# Altium schematic symbol library THS4552.SchLib: 1 symbol
Pins are listed as number, name and electrical type; pins without a type are passive.

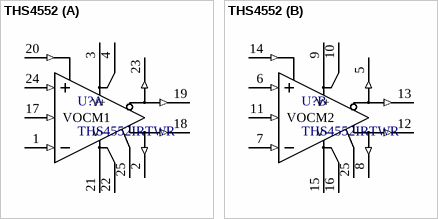
[diagram p0: symbol THS4552]

## THS4552
designator U?, comment THS4552IRTWR
Dual Channel, Low-Noise, Precision, 150-MHz, Fully Differential Amplifier; Manufacturer: Texas Instruments; PartNumber: THS4552IRTWR; RefDes: RefDes; Type: DEV; Value: Value; Copyright: Copyright (C) 2018 Accelerated Designs. All rights reserved; ComponentLink1Description: Product Page; ComponentLink1URL: https://www.ti.com/product/THS4552
footprint RTW0024A
part A pins: 1 -IN1 (in), 2 +FB1 (out), 3 +VS1 (power), 4 +VS1 (power), 17 VOCM1 (in), 18 +OUT1 (out), 19 -OUT1 (out), 20 DISABLE1_N (in), 21 -VS1 (power), 22 -VS1 (power), 23 -FB1 (out), 24 +IN1 (in), 25 EP (power)
part B pins: 5 -FB2 (out), 6 +IN2 (in), 7 -IN2 (in), 8 +FB2 (out), 9 +VS2 (power), 10 +VS2 (power), 11 VOCM2 (in), 12 +OUT2 (out), 13 -OUT2 (out), 14 DISABLE2_N (in), 15 -VS2 (power), 16 -VS2 (power), 25 EP (power)
part A text: V+; V-
part B text: V+; V-